# Altium footprint library ISO7721FDWR.PcbLib: 4 footprints
Each footprint in its own frame and in the unit in brackets; x right, y up, seen from the top. Pads: shape width x height; smd on the part's side, far side on the other; paste and mask are expansions set on the pad; w line width, h text height; cw(c..) or ccw(c..) is an arc to the next point about the centre after c.
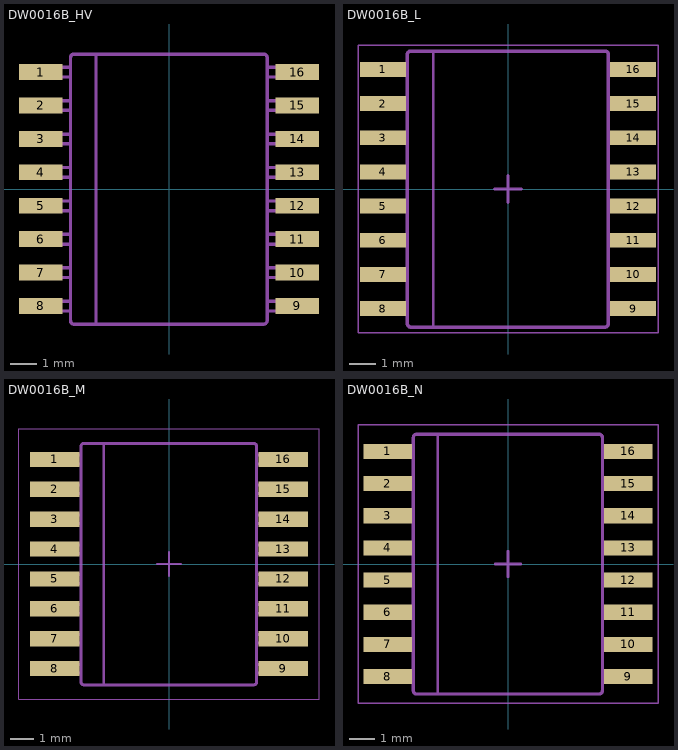
[diagram p0: the footprints below, top view; thin cyan lines are the x and y axes]

## DW0016B_HV [mm]
pads (16):
  rect 1.65x0.6 smd paste+0 mask+0: 1(-4.875,4.445) 2(-4.875,3.175) 3(-4.875,1.905) 4(-4.875,0.635) 5(-4.875,-0.635) 6(-4.875,-1.905) 7(-4.875,-3.175) 8(-4.875,-4.445) 9(4.875,-4.445) 10(4.875,-3.175) 11(4.875,-1.905) 12(4.875,-0.635) 13(4.875,0.635) 14(4.875,1.905) 15(4.875,3.175) 16(4.875,4.445)
Top Overlay:
  text ".Designator" at -3.492,-0.635 h1.27
Mechanical 13:
  lines w0.1: -2.775,-5.135 -2.775,5.127
  lines w0.127: -3.74,-4.633 -5.15,-4.633 -5.15,-4.265 -3.74,-4.265 ; -3.74,-3.363 -5.15,-3.363 -5.15,-2.995 -3.74,-2.995 ; -3.74,-2.093 -5.15,-2.093 -5.15,-1.725 -3.74,-1.725 ; -3.74,-0.823 -5.15,-0.823 -5.15,-0.455 -3.74,-0.455 ; -3.74,0.447 -5.15,0.447 -5.15,0.815 -3.74,0.815 ; -3.74,1.717 -5.15,1.717 -5.15,2.085 -3.74,2.085 ; -3.74,2.987 -5.15,2.987 -5.15,3.355 -3.74,3.355 ; -3.74,4.257 -5.15,4.257 -5.15,4.625 -3.74,4.625 ; 3.74,-4.633 5.15,-4.633 5.15,-4.265 3.74,-4.265 ; 3.74,-3.363 5.15,-3.363 5.15,-2.995 3.74,-2.995 ; 3.74,-2.093 5.15,-2.093 5.15,-1.725 3.74,-1.725 ; 3.74,-0.823 5.15,-0.823 5.15,-0.455 3.74,-0.455 ; 3.74,0.447 5.15,0.447 5.15,0.815 3.74,0.815 ; 3.74,1.717 5.15,1.717 5.15,2.085 3.74,2.085 ; 3.74,2.987 5.15,2.987 5.15,3.355 3.74,3.355 ; 3.74,4.257 5.15,4.257 5.15,4.625 3.74,4.625 ; -3.74,-5.008 -3.74,5 cw(c-3.613,5) -3.614,5.127 3.601,5.127 cw(c3.6,5) 3.727,5 3.727,-5.008 cw(c3.6,-5.008) 3.601,-5.135 -3.614,-5.135 cw(c-3.613,-5.008) -3.74,-5.008
  text ".Designator" at -3.492,-0.635 h1.27

## DW0016B_L [mm]
pads (16):
  rect 1.7x0.55 smd paste+0 mask+0: 1(-4.65,4.445) 2(-4.65,3.175) 3(-4.65,1.905) 4(-4.65,0.635) 5(-4.65,-0.635) 6(-4.65,-1.905) 7(-4.65,-3.175) 8(-4.65,-4.445) 9(4.65,-4.445) 10(4.65,-3.175) 11(4.65,-1.905) 12(4.65,-0.635) 13(4.65,0.635) 14(4.65,1.905) 15(4.65,3.175) 16(4.65,4.445)
Top Overlay:
  text ".Designator" at -3.492,-0.635 h1.27
Mechanical 13:
  lines w0.1: -2.775,-5.135 -2.775,5.127
  lines w0.127: -3.74,-4.633 -5.15,-4.633 -5.15,-4.265 -3.74,-4.265 ; -3.74,-3.363 -5.15,-3.363 -5.15,-2.995 -3.74,-2.995 ; -3.74,-2.093 -5.15,-2.093 -5.15,-1.725 -3.74,-1.725 ; -3.74,-0.823 -5.15,-0.823 -5.15,-0.455 -3.74,-0.455 ; -3.74,0.447 -5.15,0.447 -5.15,0.815 -3.74,0.815 ; -3.74,1.717 -5.15,1.717 -5.15,2.085 -3.74,2.085 ; -3.74,2.987 -5.15,2.987 -5.15,3.355 -3.74,3.355 ; -3.74,4.257 -5.15,4.257 -5.15,4.625 -3.74,4.625 ; 3.74,-4.633 5.15,-4.633 5.15,-4.265 3.74,-4.265 ; 3.74,-3.363 5.15,-3.363 5.15,-2.995 3.74,-2.995 ; 3.74,-2.093 5.15,-2.093 5.15,-1.725 3.74,-1.725 ; 3.74,-0.823 5.15,-0.823 5.15,-0.455 3.74,-0.455 ; 3.74,0.447 5.15,0.447 5.15,0.815 3.74,0.815 ; 3.74,1.717 5.15,1.717 5.15,2.085 3.74,2.085 ; 3.74,2.987 5.15,2.987 5.15,3.355 3.74,3.355 ; 3.74,4.257 5.15,4.257 5.15,4.625 3.74,4.625 ; -3.74,-5.008 -3.74,5 cw(c-3.613,5) -3.614,5.127 3.601,5.127 cw(c3.6,5) 3.727,5 3.727,-5.008 cw(c3.6,-5.008) 3.601,-5.135 -3.614,-5.135 cw(c-3.613,-5.008) -3.74,-5.008
  text ".Designator" at -3.492,-0.635 h1.27
Mechanical 15:
  lines w0.05: -5.575,-5.35 5.575,-5.35 5.575,5.35 -5.575,5.35 -5.575,-5.35
  lines w0.1: -0.5,0 0.5,0 ; 0,-0.5 0,0.5

## DW0016B_M [mm]
pads (16):
  rect 2.1x0.65 smd paste+0 mask+0: 1(-4.85,4.445) 2(-4.85,3.175) 3(-4.85,1.905) 4(-4.85,0.635) 5(-4.85,-0.635) 6(-4.85,-1.905) 7(-4.85,-3.175) 8(-4.85,-4.445) 9(4.85,-4.445) 10(4.85,-3.175) 11(4.85,-1.905) 12(4.85,-0.635) 13(4.85,0.635) 14(4.85,1.905) 15(4.85,3.175) 16(4.85,4.445)
Top Overlay:
  text ".Designator" at -3.492,-0.635 h1.27
Mechanical 13:
  lines w0.1: -2.775,-5.135 -2.775,5.127
  lines w0.127: -3.74,-4.633 -5.15,-4.633 -5.15,-4.265 -3.74,-4.265 ; -3.74,-3.363 -5.15,-3.363 -5.15,-2.995 -3.74,-2.995 ; -3.74,-2.093 -5.15,-2.093 -5.15,-1.725 -3.74,-1.725 ; -3.74,-0.823 -5.15,-0.823 -5.15,-0.455 -3.74,-0.455 ; -3.74,0.447 -5.15,0.447 -5.15,0.815 -3.74,0.815 ; -3.74,1.717 -5.15,1.717 -5.15,2.085 -3.74,2.085 ; -3.74,2.987 -5.15,2.987 -5.15,3.355 -3.74,3.355 ; -3.74,4.257 -5.15,4.257 -5.15,4.625 -3.74,4.625 ; 3.74,-4.633 5.15,-4.633 5.15,-4.265 3.74,-4.265 ; 3.74,-3.363 5.15,-3.363 5.15,-2.995 3.74,-2.995 ; 3.74,-2.093 5.15,-2.093 5.15,-1.725 3.74,-1.725 ; 3.74,-0.823 5.15,-0.823 5.15,-0.455 3.74,-0.455 ; 3.74,0.447 5.15,0.447 5.15,0.815 3.74,0.815 ; 3.74,1.717 5.15,1.717 5.15,2.085 3.74,2.085 ; 3.74,2.987 5.15,2.987 5.15,3.355 3.74,3.355 ; 3.74,4.257 5.15,4.257 5.15,4.625 3.74,4.625 ; -3.74,-5.008 -3.74,5 cw(c-3.613,5) -3.614,5.127 3.601,5.127 cw(c3.6,5) 3.727,5 3.727,-5.008 cw(c3.6,-5.008) 3.601,-5.135 -3.614,-5.135 cw(c-3.613,-5.008) -3.74,-5.008
  text ".Designator" at -3.492,-0.635 h1.27
Mechanical 15:
  lines w0.05: -6.375,-5.75 6.375,-5.75 6.375,5.75 -6.375,5.75 -6.375,-5.75
  lines w0.1: -0.5,0 0.5,0 ; 0,-0.5 0,0.5

## DW0016B_N [mm]
pads (16):
  rect 1.9x0.6 smd paste+0 mask+0: 1(-4.75,4.445) 2(-4.75,3.175) 3(-4.75,1.905) 4(-4.75,0.635) 5(-4.75,-0.635) 6(-4.75,-1.905) 7(-4.75,-3.175) 8(-4.75,-4.445) 9(4.75,-4.445) 10(4.75,-3.175) 11(4.75,-1.905) 12(4.75,-0.635) 13(4.75,0.635) 14(4.75,1.905) 15(4.75,3.175) 16(4.75,4.445)
Top Overlay:
  text ".Designator" at -3.492,-0.635 h1.27
Mechanical 13:
  lines w0.1: -2.775,-5.135 -2.775,5.127
  lines w0.127: -3.74,-4.633 -5.15,-4.633 -5.15,-4.265 -3.74,-4.265 ; -3.74,-3.363 -5.15,-3.363 -5.15,-2.995 -3.74,-2.995 ; -3.74,-2.093 -5.15,-2.093 -5.15,-1.725 -3.74,-1.725 ; -3.74,-0.823 -5.15,-0.823 -5.15,-0.455 -3.74,-0.455 ; -3.74,0.447 -5.15,0.447 -5.15,0.815 -3.74,0.815 ; -3.74,1.717 -5.15,1.717 -5.15,2.085 -3.74,2.085 ; -3.74,2.987 -5.15,2.987 -5.15,3.355 -3.74,3.355 ; -3.74,4.257 -5.15,4.257 -5.15,4.625 -3.74,4.625 ; 3.74,-4.633 5.15,-4.633 5.15,-4.265 3.74,-4.265 ; 3.74,-3.363 5.15,-3.363 5.15,-2.995 3.74,-2.995 ; 3.74,-2.093 5.15,-2.093 5.15,-1.725 3.74,-1.725 ; 3.74,-0.823 5.15,-0.823 5.15,-0.455 3.74,-0.455 ; 3.74,0.447 5.15,0.447 5.15,0.815 3.74,0.815 ; 3.74,1.717 5.15,1.717 5.15,2.085 3.74,2.085 ; 3.74,2.987 5.15,2.987 5.15,3.355 3.74,3.355 ; 3.74,4.257 5.15,4.257 5.15,4.625 3.74,4.625 ; -3.74,-5.008 -3.74,5 cw(c-3.613,5) -3.614,5.127 3.601,5.127 cw(c3.6,5) 3.727,5 3.727,-5.008 cw(c3.6,-5.008) 3.601,-5.135 -3.614,-5.135 cw(c-3.613,-5.008) -3.74,-5.008
  text ".Designator" at -3.492,-0.635 h1.27
Mechanical 15:
  lines w0.05: -5.925,-5.5 -5.925,5.5 5.925,5.5 5.925,-5.5 -5.925,-5.5
  lines w0.1: -0.5,0 0.5,0 ; 0,-0.5 0,0.5